# Altium footprint library TP.PcbLib: 12 footprints
Each footprint in its own frame and in the unit in brackets; x right, y up, seen from the top. Pads: shape width x height; smd on the part's side, far side on the other; paste and mask are expansions set on the pad; w line width, h text height; cw(c..) or ccw(c..) is an arc to the next point about the centre after c.
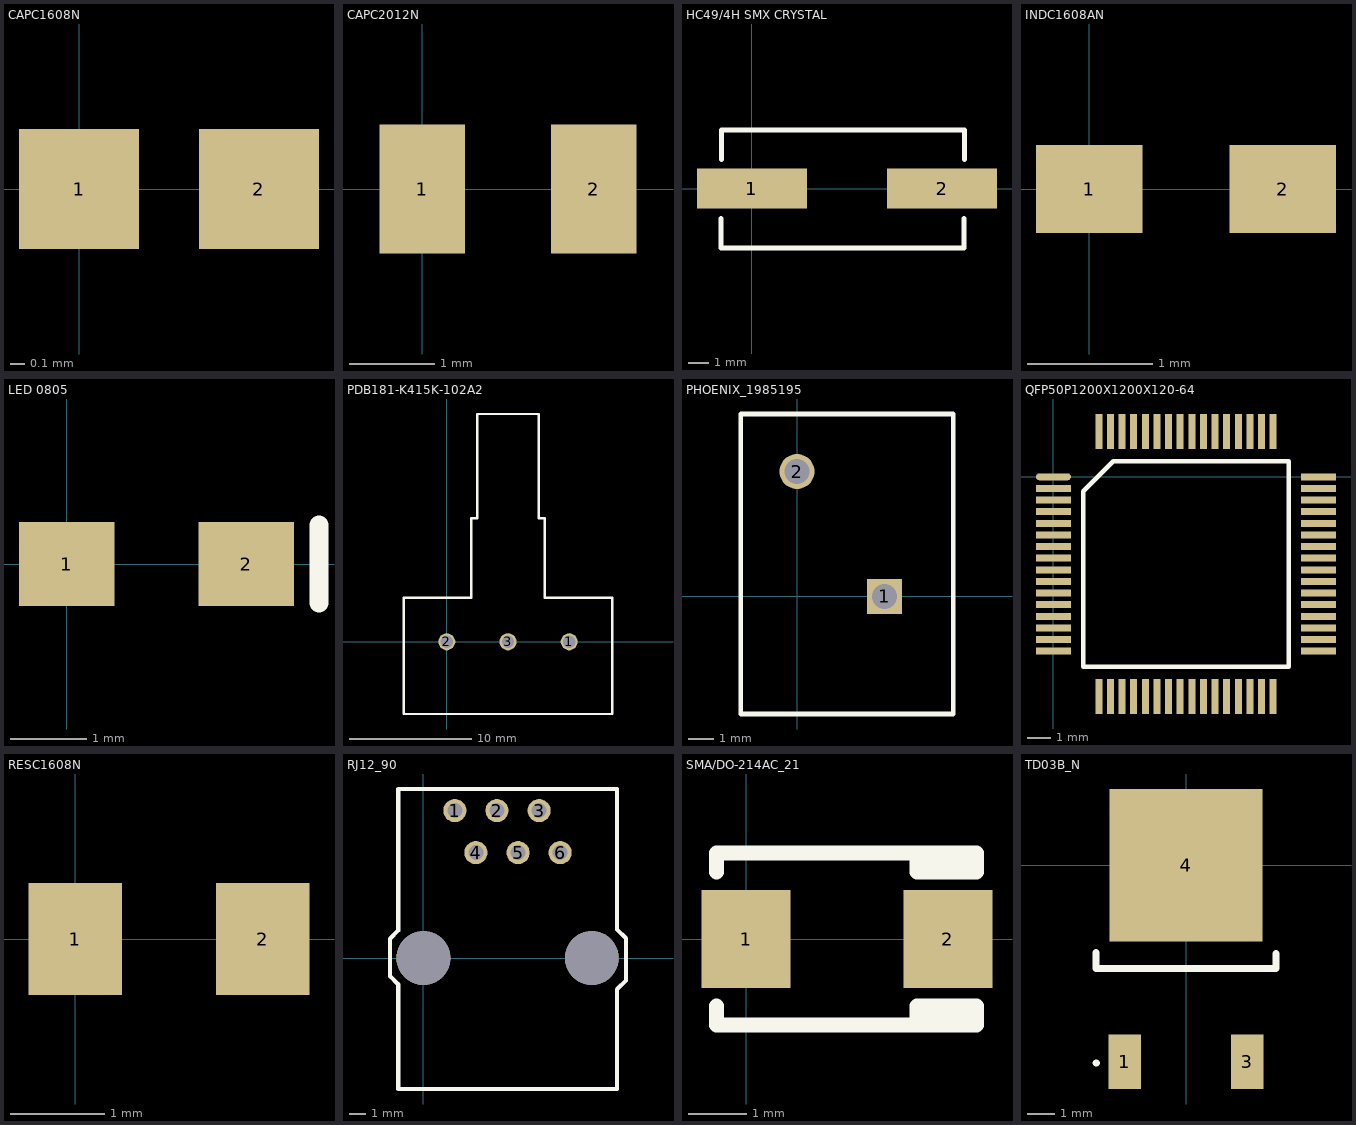
[diagram p0: the footprints below, top view; thin cyan lines are the x and y axes]

## CAPC1608N [mm]
pads (2):
  rect 0.8x0.8 smd: 1(0,0) 2(1.2,0)

## CAPC2012N [mm]
pads (2):
  rect 1x1.5 smd: 1(0,0) 2(2,0)

## HC49/4H SMX CRYSTAL [mm]
pads (2):
  rect 5.5x2 smd: 1(0,0) 2(9.5,0)
Top Overlay:
  lines w0.254: -1.549,-1.499 -1.549,-2.972 10.592,-2.972 10.592,-1.499 ; -1.524,1.473 -1.524,2.946 10.617,2.946 10.617,1.473

## INDC1608AN [mm]
pads (2):
  rect 0.85x0.7 smd: 1(0,0) 2(1.545,0)

## LED 0805 [mm]
pads (2):
  rect 1.25x1.1 smd: 1(0,0) 2(2.35,0)
Top Overlay:
  lines w0.254: 3.302,-0.508 3.302,0.508

## PDB181-K415K-102A2 [mm]
pads (3):
  round 1.4 hole 1: 1(10,0) 2(0,0) 3(5,0)
Top Overlay:
  lines w0.2: 13.5,3.569 13.5,-5.9 -3.5,-5.9 -3.5,3.6 2,3.6 2,10.1 2.5,10.1 2.5,18.6 7.5,18.6 7.5,10.1 8,10.1 8,3.6 13.5,3.6

## PHOENIX_1985195 [mm]
pads (2):
  rect 1.4x1.4 hole 1: 1(3.5,0)
  round 1.4 hole 1: 2(0,5)
Top Overlay:
  lines w0.2: -2.25,-4.7 6.25,-4.7 6.25,7.3 -2.25,7.3 -2.25,-4.7

## QFP50P1200X1200X120-64 [mm]
pads (64):
  oval 1.5x0.3 smd: 1(0,0)
  rect 1.5x0.3 smd: 2(0,-0.5) 3(0,-1) 4(0,-1.5) 5(0,-2) 6(0,-2.5) 7(0,-3) 8(0,-3.5) 9(0,-4) 10(0,-4.5) 11(0,-5) 12(0,-5.5) 13(0,-6) 14(0,-6.5) 15(0,-7) 16(0,-7.5) 33(11.4,-7.5) 34(11.4,-7) 35(11.4,-6.5) 36(11.4,-6) 37(11.4,-5.5) 38(11.4,-5) 39(11.4,-4.5) 40(11.4,-4) 41(11.4,-3.5) 42(11.4,-3) 43(11.4,-2.5) 44(11.4,-2) 45(11.4,-1.5) 46(11.4,-1) 47(11.4,-0.5) 48(11.4,0)
  rect 0.3x1.5 smd: 17(1.95,-9.45) 18(2.45,-9.45) 19(2.95,-9.45) 20(3.45,-9.45) 21(3.95,-9.45) 22(4.45,-9.45) 23(4.95,-9.45) 24(5.45,-9.45) 25(5.95,-9.45) 26(6.45,-9.45) 27(6.95,-9.45) 28(7.45,-9.45) 29(7.95,-9.45) 30(8.45,-9.45) 31(8.95,-9.45) 32(9.45,-9.45) 49(9.45,1.95) 50(8.95,1.95) 51(8.45,1.95) 52(7.95,1.95) 53(7.45,1.95) 54(6.95,1.95) 55(6.45,1.95) 56(5.95,1.95) 57(5.45,1.95) 58(4.95,1.95) 59(4.45,1.95) 60(3.95,1.95) 61(3.45,1.95) 62(2.95,1.95) 63(2.45,1.95) 64(1.95,1.95)
Top Overlay:
  lines w0.2: 1.285,-8.165 10.115,-8.165 10.115,0.665 2.57,0.665 1.285,-0.62 1.285,-8.165

## RESC1608N [mm]
pads (2):
  rect 1x1.2 smd: 1(0,0) 2(2,0)

## RJ12_90 [mm]
pads (8):
  round 1.4 hole 0.9: 1(1.9,8.9) 2(4.44,8.9) 3(6.98,8.9) 4(3.17,6.36) 5(5.71,6.36) 6(8.25,6.36)
  round 3.25 hole 3.25 unplated: ""(0,0) ""(10.16,0)
Top Overlay:
  lines w0.254: -2.007,-1.092 -1.52,-1.579 -1.52,-7.9 11.68,-7.9 11.68,-1.884 12.217,-1.346 12.217,1.194 11.68,1.731 11.68,10.2 -1.52,10.2 -1.52,1.655 -2.007,1.168 -2.007,-1.092

## SMA/DO-214AC_21 [mm]
pads (2):
  rect 1.52x1.68 smd: 1(0,0) 2(3.45,0)
Top Overlay:
  lines w0.254: -0.508,-1.143 -0.508,-1.473 3.937,-1.473 3.937,-1.143 2.921,-1.143 2.921,-1.346 3.81,-1.346 ; -0.508,1.143 -0.508,1.473 3.937,1.473 3.937,1.143 2.921,1.143 2.921,1.346 3.81,1.346

## TD03B_N [mm]
pads (3):
  rect 1.2x2 smd: 1(-2.25,-7.2) 3(2.25,-7.2)
  rect 5.6x5.6 smd: 4(0,0)
Top Overlay:
  lines w0.254: -3.302,-7.239 -3.277,-7.239 ; -3.302,-3.2 -3.302,-3.785 3.302,-3.785 3.302,-3.226